# Altium footprint library 1210.PcbLib: 1 footprints
Each footprint in its own frame and in the unit in brackets; x right, y up, seen from the top. Pads: shape width x height; smd on the part's side, far side on the other; paste and mask are expansions set on the pad; w line width, h text height; cw(c..) or ccw(c..) is an arc to the next point about the centre after c.
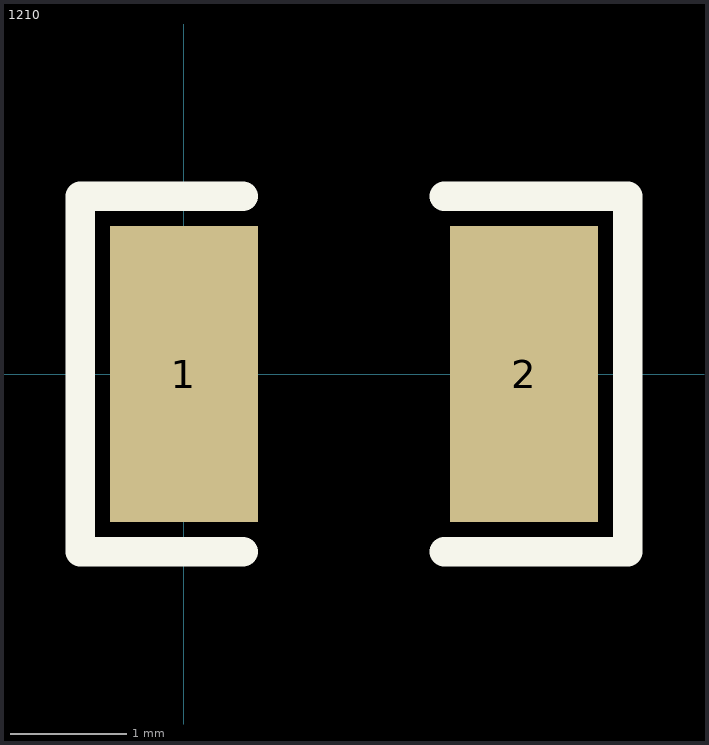
[diagram p0: the footprint, top view; thin cyan lines are the x and y axes]

## 1210 [mil]
height 60
pads (2):
  rect 50x100 smd: 1(0,0) 2(115,0)
TopOverlay:
  lines w10: 20,-60 -35,-60 -35,60 20,60 ; 88,-60 150,-60 150,60 88,60
Mechanical4:
  text ".065" at 0,0 h1
3D body: height 99.03, standoff 0.6, extent -5.61,-49.32 120.38,49.1